# Altium schematic symbol library selfmade.SchLib: 46 symbols
Pins are listed as number, name and electrical type; pins without a type are passive.

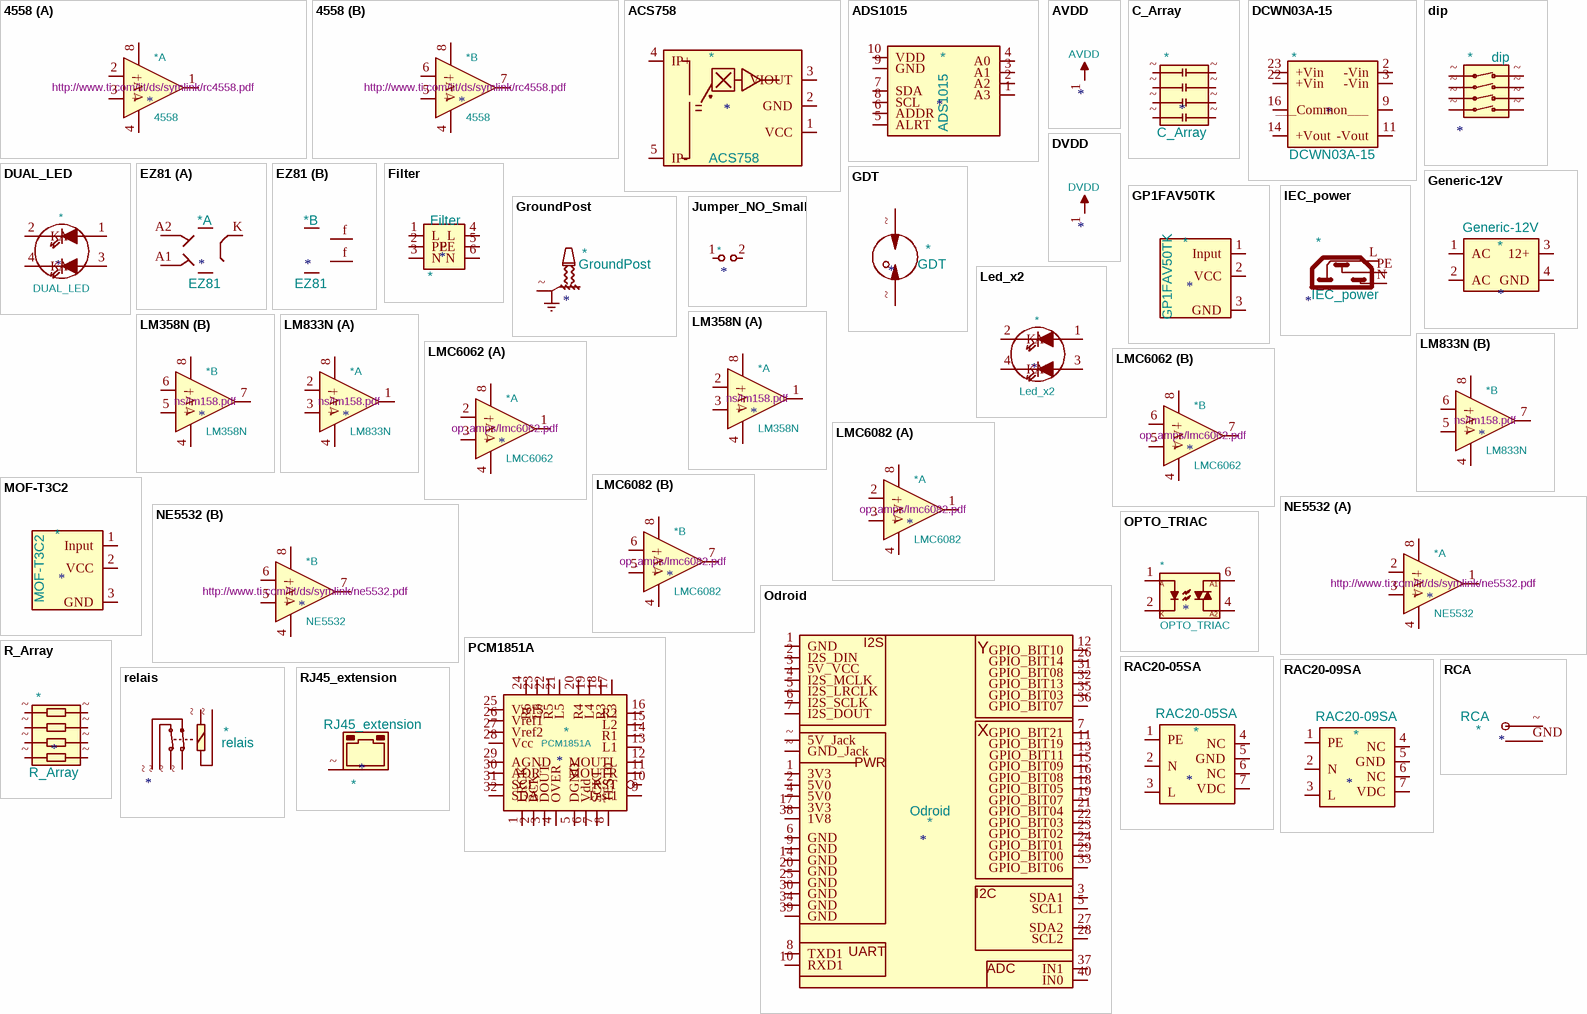
[diagram p0: symbols 4558 to RJ45_extension]

## 4558
designator *  value 4558
ki_keywords: ampliop; ki_description: Dual Op amp (general purpose); ki_fp_filters: SOIC* DIP* TSSOP* TO-99* DSBGA*; Supplier: http://www.ti.com/lit/ds/symlink/rc4558.pdf
part A pins: 1, 2 -, 3 +, 4 V-, 8 V+
part B pins: 4 V-, 5 +, 6 -, 7, 8 V+

## ACS758
designator *  value ACS758
pins: 1 VCC, 2 GND, 3 VIOUT, 4 IP+, 5 IP-

## ADS1015
designator *  value ADS1015
pins: 1 A3, 2 A2, 3 A1, 4 A0, 5 ALRT, 6 ADDR, 7 SDA, 8 SCL, 9 GND, 10 VDD

## AVDD
designator *  value AVDD
ki_keywords: POWER, PWR
pins: 1 AVDD

## C_Array
designator *  value C_Array
pins: ~, ~, ~, ~, ~, ~, ~, ~

## DCWN03A-15
designator *  value DCWN03A-15
pins: 2 -Vin, 3 -Vin, 9 ___Common___, 11 -Vout, 14 +Vout, 16, 22 +Vin, 23 +Vin

## dip
designator *  value dip
pins: ~, ~, ~, ~, ~, ~, ~, ~

## DUAL_LED
designator *  value DUAL_LED
ki_keywords: LED; ki_description: DOUBLE type Bicolore
pins: 1 A1, 2 K, 3 A2, 4 K

## DVDD
designator *  value DVDD
ki_keywords: POWER, PWR
pins: 1 DVDD

## EZ81
designator *  value EZ81
part A pins: A1, A2, K
part B pins: f, f

## Filter
designator *  value Filter
pins: 1 L, 2 PE, 3 N, 4 L, 5 PE, 6 N

## GDT
designator *  value GDT
pins: ~, ~

## Generic-12V
designator *  value Generic-12V
pins: 1 AC, 2 AC, 3 12+, 4 GND

## GP1FAV50TK
designator *  value GP1FAV50TK
Footprint: footprints:GP1FAV50TK
footprint GP1FAV50TK
pins: 1 Input, 2 VCC, 3 GND

## GroundPost
designator *  value GroundPost
pins: ~

## IEC_power
designator *  value IEC_power
pins: L, N, PE

## Jumper_NO_Small
designator *
Value: Jumper_NO_Small; ki_keywords: jumper link bridge NO; ki_description: Jumper, normally open, small symbol; ki_fp_filters: SolderJumper*Open* Jumper* TestPoint*2Pads* TestPoint*Bridge*; Footprint: footprints:SolderJumper-Open_RoundedPad-custom; Supplier: ~
footprint SolderJumper-Open_RoundedPad-custom
pins: 1, 2

## Led_x2
designator *  value Led_x2
ki_keywords: LED; ki_description: DOUBLE type Bicolore
pins: 1 A1, 2 K, 3 A2, 4 K

## LM358N
designator *  value LM358N  Supplier: ns/lm158.pdf
ki_keywords: ampliop; ki_description: Dual Op amp (low power); ki_fp_filters: SOIC* DIP* TSSOP* TO-99* DSBGA*
part A pins: 1, 2 -, 3 +, 4 V-, 8 V+
part B pins: 4 V-, 5 +, 6 -, 7, 8 V+

## LM833N
designator *  value LM833N  Supplier: ns/lm158.pdf
ki_keywords: ampliop; ki_description: Dual Op amp (low power); ki_fp_filters: SOIC* DIP* TSSOP* TO-99* DSBGA*
part A pins: 1, 2 -, 3 +, 4 V-, 8 V+
part B pins: 4 V-, 5 +, 6 -, 7, 8 V+

## LMC6062
designator *  value LMC6062  Supplier: op_amps/lmc6062.pdf
ki_keywords: ampliop; ki_description: Dual Op amp (low power); ki_fp_filters: SOIC* DIP* TSSOP* TO-99* DSBGA*
part A pins: 1, 2 -, 3 +, 4 V-, 8 V+
part B pins: 4 V-, 5 +, 6 -, 7, 8 V+

## LMC6082
designator *  value LMC6082  Supplier: op_amps/lmc6082.pdf
ki_keywords: ampliop; ki_description: Dual Op amp (low power); ki_fp_filters: SOIC* DIP* TSSOP* TO-99* DSBGA*
part A pins: 1, 2 -, 3 +, 4 V-, 8 V+
part B pins: 4 V-, 5 +, 6 -, 7, 8 V+

## MOF-T3C2
designator *  value MOF-T3C2
Footprint: footprints:GP1FAV50TK
footprint GP1FAV50TK
pins: 1 Input, 2 VCC, 3 GND

## NE5532
designator *  value NE5532
ki_keywords: ampliop; ki_description: Dual Op amp (low noice); ki_fp_filters: SOIC* DIP* TSSOP* TO-99* DSBGA*; Supplier: http://www.ti.com/lit/ds/symlink/ne5532.pdf
part A pins: 1, 2 -, 3 +, 4 V-, 8 V+
part B pins: 4 V-, 5 +, 6 -, 7, 8 V+

## Odroid
designator *  value Odroid
pins: 1 3V3, 1 GND, 2 5V0, 2 I2S_DIN, 3 SDA1, 3 5V_VCC, 4 5V0, 4 I2S_MCLK, 5 I2S_LRCLK, 5 SCL1, 6 GND, 6 I2S_SCLK, 7 GPIO_BIT21, 7 I2S_DOUT, 8 TXD1, 9 GND, 10 RXD1, 11 GPIO_BIT19, 12 GPIO_BIT10, 13 GPIO_BIT11, 14 GND, 15 GPIO_BIT09, 16 GPIO_BIT08, 17 3V3, 18 GPIO_BIT05, 19 GPIO_BIT07, 20 GND, 21 GPIO_BIT04, 22 GPIO_BIT03, 23 GPIO_BIT02, 24 GPIO_BIT01, 25 GND, 26 GPIO_BIT14, 27 SDA2, 28 SCL2, 29 GPIO_BIT00, 30 GND, 31 GPIO_BIT08, 32 GPIO_BIT13, 33 GPIO_BIT06, 34 GND, 35 GPIO_BIT03, 36 GPIO_BIT07, 37 IN1, 38 1V8, 39 GND, 40 IN0, ~ 5V_Jack, ~ GND_Jack
text: I2S; Y; X; PWR; I2C; UART; ADC

## OPTO_TRIAC
designator *  value OPTO_TRIAC
ki_keywords: Opto-Triac Opto Triac Random Phase; ki_description: Generic Random Phase Opto-Triac
pins: 1, 2, 4, 6
text: A; A1; K; A2

## PCM1851A
designator *  value PCM1851A
pins: 1 LRCK, 2 BCK, 3 DOUT, 4 OVER, 5 DGND, 6 Vdd, 7 SCKI, 8 TEST0, 9 Test1, 10 RST, 11 MOUTR, 12 MOUTL, 13 L1, 14 R1, 15 L2, 16 R2, 17 L3, 18 R3, 19 L4, 20 R4, 21 L5, 22 R5, 23 L6, 24 R6, 25 VrefS, 26 Vref1, 27 Vref2, 28 Vcc, 29 AGND, 30 ADR, 31 SCL, 32 SDA

## R_Array
designator *  value R_Array
pins: ~, ~, ~, ~, ~, ~, ~, ~

## RAC20-05SA
designator *  value RAC20-05SA
ki_keywords: 20W 5V 4A ACDC Converter; ki_description: AC-DC 20W Single Converter
pins: 1 PE, 2 N, 3 L, 4 NC, 5 GND, 6 NC, 7 VDC

## RAC20-09SA
designator *  value RAC20-09SA
ki_keywords: 20W 9V 2,2A ACDC Converter; ki_description: AC-DC 9V 20W Single Converter
pins: 1 PE, 2 N, 3 L, 4 NC, 5 GND, 6 NC, 7 VDC

## RCA
designator *  value RCA
pins: GND, ~

## relais
designator *  value relais
pins: ~, ~, ~, ~, ~, ~

## RJ45_extension
designator *  value RJ45_extension
pins: ~

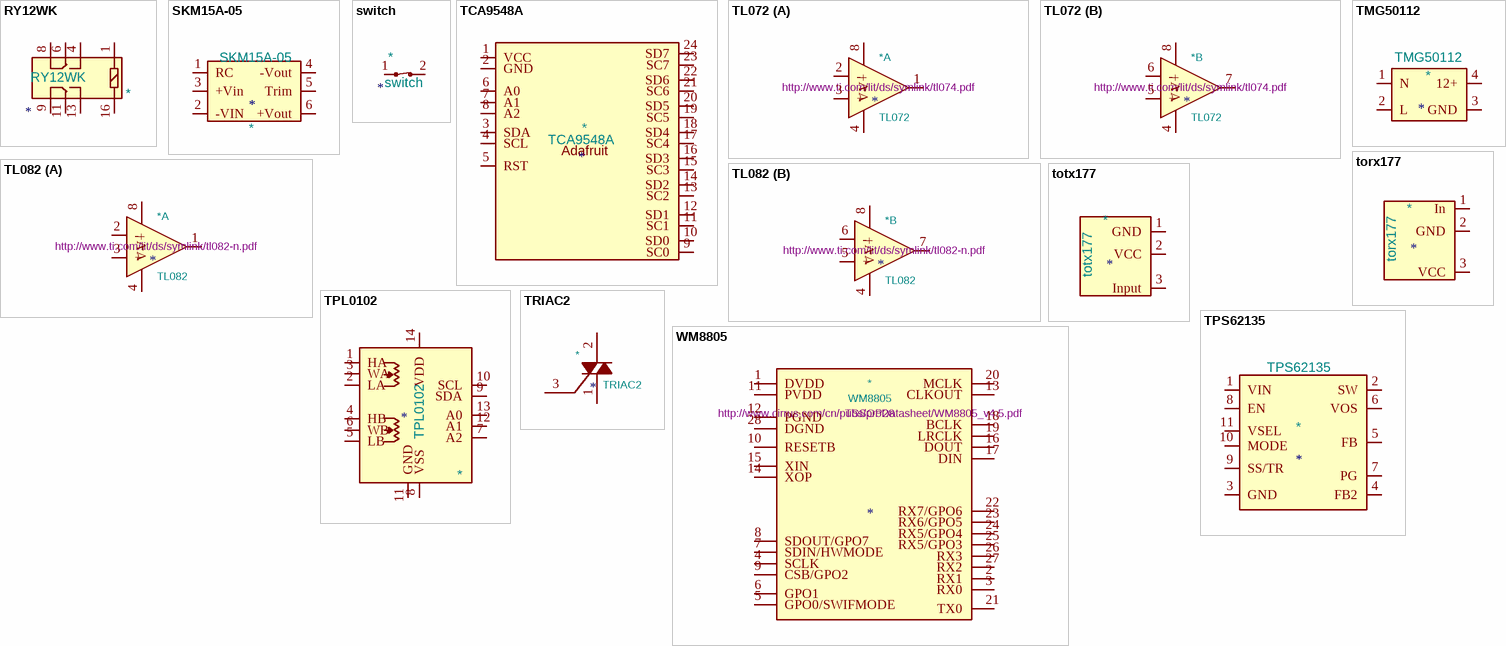
[diagram p1: symbols RY12WK to WM8805]

## RY12WK
designator *  value RY12WK
pins: 1, 4, 6, 8, 9, 11, 13, 16

## SKM15A-05
designator *  value SKM15A-05
pins: 1 RC, 2 -VIN, 3 +Vin, 4 -Vout, 5 Trim, 6 +Vout

## switch
designator *  value switch
pins: 1, 2

## TCA9548A
designator *  value TCA9548A
pins: 1 VCC, 2 GND, 3 SDA, 4 SCL, 5 RST, 6 A0, 7 A1, 8 A2, 9 SC0, 10 SD0, 11 SC1, 12 SD1, 13 SC2, 14 SD2, 15 SC3, 16 SD3, 17 SC4, 18 SD4, 19 SC5, 20 SD5, 21 SC6, 22 SD6, 23 SC7, 24 SD7
text: Adafruit

## TL072
designator *  value TL072
ki_keywords: ampliop; ki_description: Low-Noise Dual Op amp (low power); ki_fp_filters: SOIC* DIP* TSSOP* TO-99* DSBGA*; Supplier: http://www.ti.com/lit/ds/symlink/tl074.pdf
part A pins: 1, 2 -, 3 +, 4 V-, 8 V+
part B pins: 4 V-, 5 +, 6 -, 7, 8 V+

## TL082
designator *  value TL082
ki_keywords: ampliop; ki_description: Wide Bandwidth Dual Op amp (Cmos); ki_fp_filters: SOIC* DIP* TSSOP* TO-99* DSBGA*; Supplier: http://www.ti.com/lit/ds/symlink/tl082-n.pdf
part A pins: 1, 2 -, 3 +, 4 V-, 8 V+
part B pins: 4 V-, 5 +, 6 -, 7, 8 V+

## TMG50112
designator *  value TMG50112
pins: 1 N, 2 L, 3 GND, 4 12+

## torx177
designator *  value torx177
pins: 1 In, 2 GND, 3 VCC

## totx177
designator *  value totx177
Footprint: footprints:Toshiba_TOTX177
footprint Toshiba_TOTX177
pins: 1 GND, 2 VCC, 3 Input

## TPL0102
designator *  value TPL0102
pins: 1 HA, 2 LA, 3 WA, 4 HB, 5 LB, 6 WB, 7 A2, 8 VSS, 9 SDA, 10 SCL, 11 GND, 12 A1, 13 A0, 14 VDD

## TPS62135
designator *  value TPS62135
pins: 1 VIN, 2 SW, 3 GND, 4 FB2, 5 FB, 6 VOS, 7 PG, 8 EN, 9 SS/TR, 10 MODE, 11 VSEL

## TRIAC2
designator *  value TRIAC2
pins: 1, 2, 3

## WM8805
designator *  value WM8805  Footprint: TSSOP28
ki_description: 8RX 1TX SPDIF I2S Transciever with PLL, TSSOP28; ki_fp_filters: TSSOP*; Supplier: http://www.cirrus.com/cn/pubs/proDatasheet/WM8805_v4.5.pdf
footprint TSSOP28
pins: 1 DVDD, 2 RX1, 3 RX0, 4 SCLK, 5 GPO0/SWIFMODE, 6 GPO1, 7 SDIN/HWMODE, 8 SDOUT/GPO7, 9 CSB/GPO2, 10 RESETB, 11 PVDD, 12 PGND, 13 CLKOUT, 14 XOP, 15 XIN, 16 DOUT, 17 DIN, 18 BCLK, 19 LRCLK, 20 MCLK, 21 TX0, 22 RX7/GPO6, 23 RX6/GPO5, 24 RX5/GPO4, 25 RX5/GPO3, 26 RX3, 27 RX2, 28 DGND